# EAGLE library part JTAG_CON (library den)
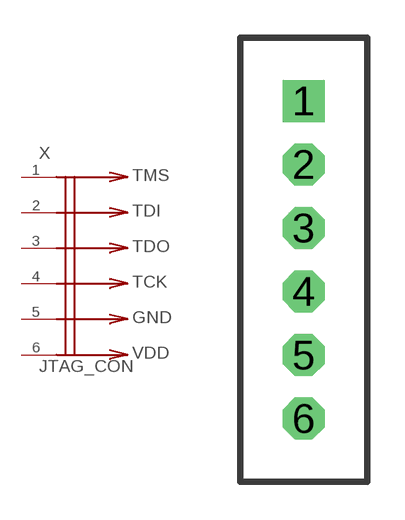
[diagram p30: symbol with the pads of PLC-6PIN; footprint PLC-6PIN]

Designator prefix X

## JTAG_CON  [PLC-6PIN]
1  1
2  2
3  3
4  4
5  5
6  6

## Footprint PLC-6PIN (pad centres in mm)
drill 1 pad 1.676 square: 1 0,0
drill 1 pad 1.676 octagon: 2 0,-2.54; 3 0,-5.08; 4 0,-7.62; 5 0,-10.16; 6 0,-12.7